# EAGLE library part LM1972MX/NOPB (library Project-H10)
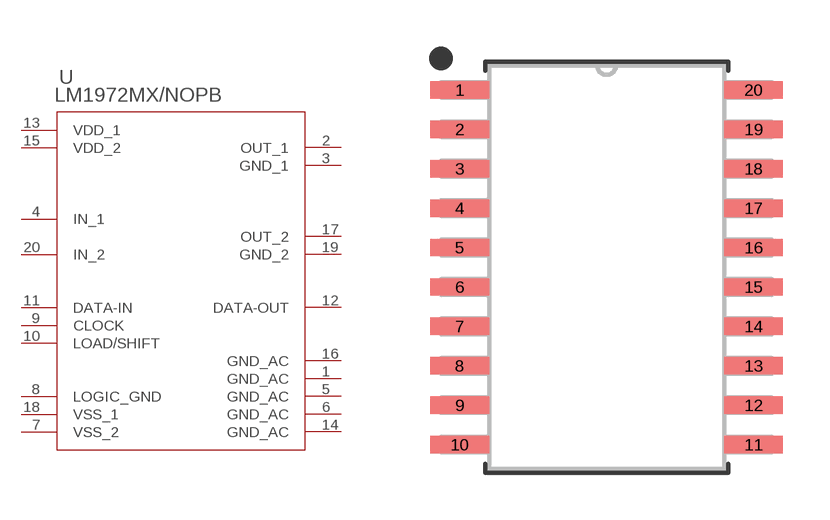
[diagram p6: symbol with the pads of M20B_TEX; footprint M20B_TEX]

Designator prefix U

## LM1972MX/NOPBM20B_TEX (COPYRIGHT: Copyright (C) 2023 Ultra Librarian. All rights reserved.; MANUFACTURER_PART_NUMBER: LM1972MX/NOPB; MFR_NAME: Texas Instruments)  [M20B_TEX]
1  GND_AC  pwr
2  OUT_1  out
3  GND_1  pwr
4  IN_1  in
5  GND_AC  pwr
6  GND_AC  pwr
7  VSS_2  pwr
8  LOGIC_GND  pwr
9  CLOCK  in
10  LOAD/SHIFT  in
11  DATA-IN  in
12  DATA-OUT  out
13  VDD_1  pwr
14  GND_AC  pwr
15  VDD_2  pwr
16  GND_AC  pwr
17  OUT_2  out
18  VSS_1  pwr
19  GND_2  pwr
20  IN_2  in

## Footprint M20B_TEX (pad centres in mm)
smd 1.892 x 0.559: 1 -4.731,5.715; 2 -4.731,4.445; 3 -4.731,3.175; 4 -4.731,1.905; 5 -4.731,0.635; 6 -4.731,-0.635; 7 -4.731,-1.905; 8 -4.731,-3.175; 9 -4.731,-4.445; 10 -4.731,-5.715; 11 4.731,-5.715; 12 4.731,-4.445; 13 4.731,-3.175; 14 4.731,-1.905; 15 4.731,-0.635; 16 4.731,0.635; 17 4.731,1.905; 18 4.731,3.175; 19 4.731,4.445; 20 4.731,5.715